# Altium schematic symbol library CN0383.SchLib: 2 symbols
Pins are listed as number, name and electrical type; pins without a type are passive.

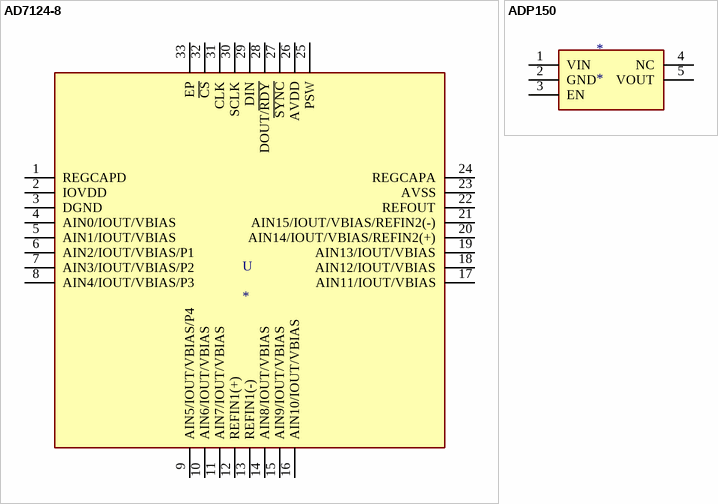
[diagram p0: symbols AD7124-8 to ADP150]

## AD7124-8
designator U
pins: 1 REGCAPD, 2 IOVDD, 3 DGND, 4 AIN0/IOUT/VBIAS, 5 AIN1/IOUT/VBIAS, 6 AIN2/IOUT/VBIAS/P1, 7 AIN3/IOUT/VBIAS/P2, 8 AIN4/IOUT/VBIAS/P3, 9 AIN5/IOUT/VBIAS/P4, 10 AIN6/IOUT/VBIAS, 11 AIN7/IOUT/VBIAS, 12 REFIN1(+), 13 REFIN1(-), 14 AIN8/IOUT/VBIAS, 15 AIN9/IOUT/VBIAS, 16 AIN10/IOUT/VBIAS, 17 AIN11/IOUT/VBIAS, 18 AIN12/IOUT/VBIAS, 19 AIN13/IOUT/VBIAS, 20 AIN14/IOUT/VBIAS/REFIN2(+), 21 AIN15/IOUT/VBIAS/REFIN2(-), 22 REFOUT, 23 AVSS, 24 REGCAPA, 25 PSW, 26 AVDD, 27 ~{SYNC}, 28 DOUT/~{RDY}, 29 DIN, 30 SCLK, 31 CLK, 32 ~{CS}, 33 EP

## ADP150
designator *
pins: 1 VIN, 2 GND, 3 EN, 4 NC, 5 VOUT